# Altium schematic symbol library WS-TASV.SchLib: 75 symbols
Pins are listed as number, name and electrical type; pins without a type are passive.

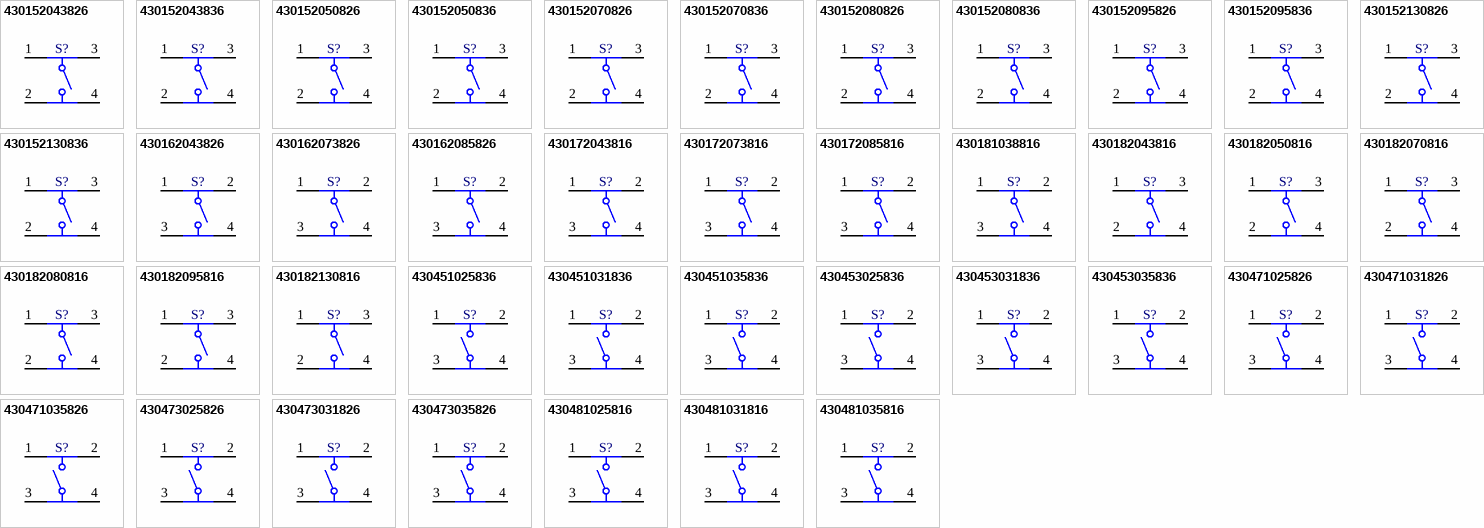
[diagram p0: symbols 430152043826 to 430481035816]

## 430152043826
designator S?
WS-TASV 6x6mm Tact Switch, SMD version; Part Number: 430152043826; Operation Force: 260g; ComponentLink1Description: Manufacturer; ComponentLink1URL: http://www.we-online.de; ComponentLink2Description: Datasheet; ComponentLink2URL: http://katalog.we-online.de/em/datasheet/4301x2xxx8x6.pdf; Published Date: June 2017; Publisher: Wurth Elektronik; Life Cycle: 200000 cycles; Size: 6x6x4.3 mm
footprint 4301x20438x6_6x6x4.3 (6x6mm Tact Switch, SMD version)
pins: 1, 2, 3, 4

## 430152043836
designator S?
WS-TASV 6x6mm Tact Switch, SMD version; Part Number: 430152043836; Operation Force: 360g; ComponentLink1Description: Manufacturer; ComponentLink1URL: http://www.we-online.de; ComponentLink2Description: Datasheet; ComponentLink2URL: http://katalog.we-online.de/em/datasheet/4301x2xxx8x6.pdf; Published Date: June 2017; Publisher: Wurth Elektronik; Life Cycle: 200000 cycles; Size: 6x6x4.3 mm
footprint 4301x20438x6_6x6x4.3 (6x6mm Tact Switch, SMD version)
pins: 1, 2, 3, 4

## 430152050826
designator S?
WS-TASV 6x6mm Tact Switch, SMD version; Part Number: 430152050826; Operation Force: 260g; ComponentLink1Description: Manufacturer; ComponentLink1URL: http://www.we-online.de; ComponentLink2Description: Datasheet; ComponentLink2URL: http://katalog.we-online.de/em/datasheet/4301x2xxx8x6.pdf; Published Date: June 2017; Publisher: Wurth Elektronik; Life Cycle: 200000 cycles; Size: 6x6x5 mm
footprint 4301x20508x6_6x6x5 (6x6mm Tact Switch, SMD version)
pins: 1, 2, 3, 4

## 430152050836
designator S?
WS-TASV 6x6mm Tact Switch, SMD version; Part Number: 430152050836; Operation Force: 360g; ComponentLink1Description: Manufacturer; ComponentLink1URL: http://www.we-online.de; ComponentLink2Description: Datasheet; ComponentLink2URL: http://katalog.we-online.de/em/datasheet/4301x2xxx8x6.pdf; Published Date: June 2017; Publisher: Wurth Elektronik; Life Cycle: 200000 cycles; Size: 6x6x5 mm
footprint 4301x20508x6_6x6x5 (6x6mm Tact Switch, SMD version)
pins: 1, 2, 3, 4

## 430152070826
designator S?
WS-TASV 6x6mm Tact Switch, SMD version; Part Number: 430152070826; Operation Force: 260g; ComponentLink1Description: Manufacturer; ComponentLink1URL: http://www.we-online.de; ComponentLink2Description: Datasheet; ComponentLink2URL: http://katalog.we-online.de/em/datasheet/4301x2xxx8x6.pdf; Published Date: June 2017; Publisher: Wurth Elektronik; Life Cycle: 200000 cycles; Size: 6x6x7 mm
footprint 4301x20708x6_6x6x7 (6x6mm Tact Switch, SMD version)
pins: 1, 2, 3, 4

## 430152070836
designator S?
WS-TASV 6x6mm Tact Switch, SMD version; Part Number: 430152070836; Operation Force: 360g; ComponentLink1Description: Manufacturer; ComponentLink1URL: http://www.we-online.de; ComponentLink2Description: Datasheet; ComponentLink2URL: http://katalog.we-online.de/em/datasheet/4301x2xxx8x6.pdf; Published Date: June 2017; Publisher: Wurth Elektronik; Life Cycle: 200000 cycles; Size: 6x6x7 mm
footprint 4301x20708x6_6x6x7 (6x6mm Tact Switch, SMD version)
pins: 1, 2, 3, 4

## 430152080826
designator S?
WS-TASV 6x6mm Tact Switch, SMD version; Part Number: 430152080826; Operation Force: 260g; ComponentLink1Description: Manufacturer; ComponentLink1URL: http://www.we-online.de; ComponentLink2Description: Datasheet; ComponentLink2URL: http://katalog.we-online.de/em/datasheet/4301x2xxx8x6.pdf; Published Date: June 2017; Publisher: Wurth Elektronik; Life Cycle: 200000 cycles; Size: 6x6x8 mm
footprint 4301x20808x6_6x6x8 (6x6mm Tact Switch, SMD version)
pins: 1, 2, 3, 4

## 430152080836
designator S?
WS-TASV 6x6mm Tact Switch, SMD version; Part Number: 430152080836; Operation Force: 360g; ComponentLink1Description: Manufacturer; ComponentLink1URL: http://www.we-online.de; ComponentLink2Description: Datasheet; ComponentLink2URL: http://katalog.we-online.de/em/datasheet/4301x2xxx8x6.pdf; Published Date: June 2017; Publisher: Wurth Elektronik; Life Cycle: 200000 cycles; Size: 6x6x8 mm
footprint 4301x20808x6_6x6x8 (6x6mm Tact Switch, SMD version)
pins: 1, 2, 3, 4

## 430152095826
designator S?
WS-TASV 6x6mm Tact Switch, SMD version; Part Number: 430152095826; Operation Force: 260g; ComponentLink1Description: Manufacturer; ComponentLink1URL: http://www.we-online.de; ComponentLink2Description: Datasheet; ComponentLink2URL: http://katalog.we-online.de/em/datasheet/4301x2xxx8x6.pdf; Published Date: June 2017; Publisher: Wurth Elektronik; Life Cycle: 200000 cycles; Size: 6x6x9.5 mm
footprint 4301x20958x6_6x6x9.5 (6x6mm Tact Switch, SMD version)
pins: 1, 2, 3, 4

## 430152095836
designator S?
WS-TASV 6x6mm Tact Switch, SMD version; Part Number: 430152095836; Operation Force: 360g; ComponentLink1Description: Manufacturer; ComponentLink1URL: http://www.we-online.de; ComponentLink2Description: Datasheet; ComponentLink2URL: http://katalog.we-online.de/em/datasheet/4301x2xxx8x6.pdf; Published Date: June 2017; Publisher: Wurth Elektronik; Life Cycle: 200000 cycles; Size: 6x6x9.5 mm
footprint 4301x20958x6_6x6x9.5 (6x6mm Tact Switch, SMD version)
pins: 1, 2, 3, 4

## 430152130826
designator S?
WS-TASV 6x6mm Tact Switch, SMD version; Part Number: 430152130826; Operation Force: 260g; ComponentLink1Description: Manufacturer; ComponentLink1URL: http://www.we-online.de; ComponentLink2Description: Datasheet; ComponentLink2URL: http://katalog.we-online.de/em/datasheet/4301x2xxx8x6.pdf; Published Date: June 2017; Publisher: Wurth Elektronik; Life Cycle: 200000 cycles; Size: 6x6x13 mm
footprint 4301x21308x6_6x6x13 (6x6mm Tact Switch, SMD version)
pins: 1, 2, 3, 4

## 430152130836
designator S?
WS-TASV 6x6mm Tact Switch, SMD version; Part Number: 430152130836; Operation Force: 360g; ComponentLink1Description: Manufacturer; ComponentLink1URL: http://www.we-online.de; ComponentLink2Description: Datasheet; ComponentLink2URL: http://katalog.we-online.de/em/datasheet/4301x2xxx8x6.pdf; Published Date: June 2017; Publisher: Wurth Elektronik; Life Cycle: 200000 cycles; Size: 6x6x13 mm
footprint 4301x21308x6_6x6x13 (6x6mm Tact Switch, SMD version)
pins: 1, 2, 3, 4

## 430162043826
designator S?
WS-TASV 12x12mm Tact Switch, SMD version; Part Number: 430162043826; Operation Force: 260g; ComponentLink1Description: Manufacturer; ComponentLink1URL: http://www.we-online.de; ComponentLink2Description: Datasheet; ComponentLink2URL: http://katalog.we-online.de/em/datasheet/4301x20438x6.pdf; Published Date: June 2017; Publisher: Wurth Elektronik; Life Cycle: 300000 cycles; Size: 12x12x4.3 mm
footprint 4301x20438x6_12x12x4.3 (12x12 mm Tact Switch, SMD version)
pins: 1, 2, 3, 4

## 430162073826
designator S?
WS-TASV 12x12mm Tact Switch, SMD version; Part Number: 430162073826; Operation Force: 260g; ComponentLink1Description: Manufacturer; ComponentLink1URL: http://www.we-online.de; ComponentLink2Description: Datasheet; ComponentLink2URL: http://katalog.we-online.de/em/datasheet/4301x20738x6.pdf; Published Date: June 2017; Publisher: Wurth Elektronik; Life Cycle: 300000 cycles; Size: 12x12x7.3 mm
footprint 4301x20738x6_12x12x7.3 (12x12 mm Tact Switch, SMD version)
pins: 1, 2, 3, 4

## 430162085826
designator S?
WS-TASV 12x12mm Tact Switch, SMD version; Part Number: 430162085826; Operation Force: 260g; ComponentLink1Description: Manufacturer; ComponentLink1URL: http://www.we-online.de; ComponentLink2Description: Datasheet; ComponentLink2URL: http://katalog.we-online.de/em/datasheet/4301x20858x6.pdf; Published Date: June 2017; Publisher: Wurth Elektronik; Life Cycle: 300000 cycles; Size: 12x12x8.5 mm
footprint 4301x20858x6_12x12x8.5 (12x12 mm Tact Switch, SMD version)
pins: 1, 2, 3, 4

## 430172043816
designator S?
WS-TASV 12x12mm Tact Switch, SMD version; Part Number: 430172043816; Operation Force: 160g; ComponentLink1Description: Manufacturer; ComponentLink1URL: http://www.we-online.de; ComponentLink2Description: Datasheet; ComponentLink2URL: http://katalog.we-online.de/em/datasheet/4301x20438x6.pdf; Published Date: June 2017; Publisher: Wurth Elektronik; Life Cycle: 500000 cycles; Size: 12x12x4.3 mm
footprint 4301x20438x6_12x12x4.3 (12x12 mm Tact Switch, SMD version)
pins: 1, 2, 3, 4

## 430172073816
designator S?
WS-TASV 12x12mm Tact Switch, SMD version; Part Number: 430172073816; Operation Force: 160g; ComponentLink1Description: Manufacturer; ComponentLink1URL: http://www.we-online.de; ComponentLink2Description: Datasheet; ComponentLink2URL: http://katalog.we-online.de/em/datasheet/4301x20738x6.pdf; Published Date: June 2017; Publisher: Wurth Elektronik; Life Cycle: 500000 cycles; Size: 12x12x7.3 mm
footprint 4301x20738x6_12x12x7.3 (12x12 mm Tact Switch, SMD version)
pins: 1, 2, 3, 4

## 430172085816
designator S?
WS-TASV 12x12mm Tact Switch, SMD version; Part Number: 430172085816; Operation Force: 160g; ComponentLink1Description: Manufacturer; ComponentLink1URL: http://www.we-online.de; ComponentLink2Description: Datasheet; ComponentLink2URL: http://katalog.we-online.de/em/datasheet/4301x20858x6.pdf; Published Date: June 2017; Publisher: Wurth Elektronik; Life Cycle: 500000 cycles; Size: 12x12x8.5 mm
footprint 4301x20858x6_12x12x8.5 (12x12 mm Tact Switch, SMD version)
pins: 1, 2, 3, 4

## 430181038816
designator S?
WS-TASV 4.5x4.5mm Tact Switch, SMD version; Part Number: 430181038816; Operation Force: 160g; ComponentLink1Description: Manufacturer; ComponentLink1URL: http://www.we-online.de; ComponentLink2Description: Datasheet; ComponentLink2URL: http://katalog.we-online.de/em/datasheet/430181038816.pdf; Published Date: June 2017; Publisher: Wurth Elektronik; Life Cycle: 1000000 cycles; Size: 4.5x4.5x3.8 mm
footprint 430181038816_4.5x4.5x3.8 (4.5x4.5mm Tact Switch, SMD version)
pins: 1, 2, 3, 4

## 430182043816
designator S?
WS-TASV 6x6mm Tact Switch, SMD version; Part Number: 430182043816; Operation Force: 160g; ComponentLink1Description: Manufacturer; ComponentLink1URL: http://www.we-online.de; ComponentLink2Description: Datasheet; ComponentLink2URL: http://katalog.we-online.de/em/datasheet/4301x2xxx8x6.pdf; Published Date: June 2017; Publisher: Wurth Elektronik; Life Cycle: 1000000 cycles; Size: 6x6x4.3 mm
footprint 4301x20438x6_6x6x4.3 (6x6mm Tact Switch, SMD version)
pins: 1, 2, 3, 4

## 430182050816
designator S?
WS-TASV 6x6mm Tact Switch, SMD version; Part Number: 430182050816; Operation Force: 160g; ComponentLink1Description: Manufacturer; ComponentLink1URL: http://www.we-online.de; ComponentLink2Description: Datasheet; ComponentLink2URL: http://katalog.we-online.de/em/datasheet/4301x2xxx8x6.pdf; Published Date: June 2017; Publisher: Wurth Elektronik; Life Cycle: 1000000 cycles; Size: 6x6x5 mm
footprint 4301x20508x6_6x6x5 (6x6mm Tact Switch, SMD version)
pins: 1, 2, 3, 4

## 430182070816
designator S?
WS-TASV 6x6mm Tact Switch, SMD version; Part Number: 430182070816; Operation Force: 160g; ComponentLink1Description: Manufacturer; ComponentLink1URL: http://www.we-online.de; ComponentLink2Description: Datasheet; ComponentLink2URL: http://katalog.we-online.de/em/datasheet/4301x2xxx8x6.pdf; Published Date: June 2017; Publisher: Wurth Elektronik; Life Cycle: 1000000 cycles; Size: 6x6x7 mm
footprint 4301x20708x6_6x6x7 (6x6mm Tact Switch, SMD version)
pins: 1, 2, 3, 4

## 430182080816
designator S?
WS-TASV 6x6mm Tact Switch, SMD version; Part Number: 430182080816; Operation Force: 160g; ComponentLink1Description: Manufacturer; ComponentLink1URL: http://www.we-online.de; ComponentLink2Description: Datasheet; ComponentLink2URL: http://katalog.we-online.de/em/datasheet/4301x2xxx8x6.pdf; Published Date: June 2017; Publisher: Wurth Elektronik; Life Cycle: 1000000 cycles; Size: 6x6x8 mm
footprint 4301x20808x6_6x6x8 (6x6mm Tact Switch, SMD version)
pins: 1, 2, 3, 4

## 430182095816
designator S?
WS-TASV 6x6mm Tact Switch, SMD version; Part Number: 430182095816; Operation Force: 160g; ComponentLink1Description: Manufacturer; ComponentLink1URL: http://www.we-online.de; ComponentLink2Description: Datasheet; ComponentLink2URL: http://katalog.we-online.de/em/datasheet/4301x2xxx8x6.pdf; Published Date: June 2017; Publisher: Wurth Elektronik; Life Cycle: 1000000 cycles; Size: 6x6x9.5 mm
footprint 4301x20958x6_6x6x9.5 (6x6mm Tact Switch, SMD version)
pins: 1, 2, 3, 4

## 430182130816
designator S?
WS-TASV 6x6mm Tact Switch, SMD version; Part Number: 430182130816; Operation Force: 160g; ComponentLink1Description: Manufacturer; ComponentLink1URL: http://www.we-online.de; ComponentLink2Description: Datasheet; ComponentLink2URL: http://katalog.we-online.de/em/datasheet/4301x2xxx8x6.pdf; Published Date: June 2017; Publisher: Wurth Elektronik; Life Cycle: 1000000 cycles; Size: 6x6x13 mm
footprint 4301x21308x6_6x6x13 (6x6mm Tact Switch, SMD version)
pins: 1, 2, 3, 4

## 430451025836
designator S?
WS-TASV 6x6mm washable Tact Switch, SMD version; Part Number: 430451025836; Operation Force: 360g; ComponentLink1Description: Manufacturer; ComponentLink1URL: http://www.we-online.de; ComponentLink2Description: Datasheet; ComponentLink2URL: http://katalog.we-online.de/em/datasheet/4304x1xxx8x6.pdf; Published Date: June 2017; Publisher: Wurth Elektronik; Life Cycle: 200000 cycles; Size: 6x6x2.5 mm
footprint 4304x10258x6_6x6x2.5 (6x6mm washable Tact Switch, SMD version)
pins: 1, 2, 3, 4

## 430451031836
designator S?
WS-TASV 6x6mm washable Tact Switch, SMD version; Part Number: 430451031836; Operation Force: 360g; ComponentLink1Description: Manufacturer; ComponentLink1URL: http://www.we-online.de; ComponentLink2Description: Datasheet; ComponentLink2URL: http://katalog.we-online.de/em/datasheet/4304x1xxx8x6.pdf; Published Date: June 2017; Publisher: Wurth Elektronik; Life Cycle: 200000 cycles; Size: 6x6x3.1 mm
footprint 4304x10318x6_6x6x3.1 (6x6mm washable Tact Switch, SMD version)
pins: 1, 2, 3, 4

## 430451035836
designator S?
WS-TASV 6x6mm washable Tact Switch, SMD version; Part Number: 430451035836; Operation Force: 360g; ComponentLink1Description: Manufacturer; ComponentLink1URL: http://www.we-online.de; ComponentLink2Description: Datasheet; ComponentLink2URL: http://katalog.we-online.de/em/datasheet/4304x1xxx8x6.pdf; Published Date: June 2017; Publisher: Wurth Elektronik; Life Cycle: 200000 cycles; Size: 6x6x3.5 mm
footprint 4304x10358x6_6x6x3.5 (6x6mm washable Tact Switch, SMD version)
pins: 1, 2, 3, 4

## 430453025836
designator S?
WS-TASV 6x6mm washable Tact Switch, J-Bend SMD version; Part Number: 430453025836; Operation Force: 360g; ComponentLink1Description: Manufacturer; ComponentLink1URL: http://www.we-online.de; ComponentLink2Description: Datasheet; ComponentLink2URL: http://katalog.we-online.de/em/datasheet/4304x3xxx8x6.pdf; Published Date: June 2017; Publisher: Wurth Elektronik; Life Cycle: 200000 cycles; Size: 6x6x2.5 mm
footprint 4304x30258x6_6x6x2.5 (6x6mm washable Tact Switch, J-Bend SMD version)
pins: 1, 2, 3, 4

## 430453031836
designator S?
WS-TASV 6x6mm washable Tact Switch, J-Bend SMD version; Part Number: 430453031836; Operation Force: 360g; ComponentLink1Description: Manufacturer; ComponentLink1URL: http://www.we-online.de; ComponentLink2Description: Datasheet; ComponentLink2URL: http://katalog.we-online.de/em/datasheet/4304x3xxx8x6.pdf; Published Date: June 2017; Publisher: Wurth Elektronik; Life Cycle: 200000 cycles; Size: 6x6x3.1 mm
footprint 4304x30318x6_6x6x3.1 (6x6mm washable Tact Switch, J-Bend SMD version)
pins: 1, 2, 3, 4

## 430453035836
designator S?
WS-TASV 6x6mm washable Tact Switch, J-Bend SMD version; Part Number: 430453035836; Operation Force: 360g; ComponentLink1Description: Manufacturer; ComponentLink1URL: http://www.we-online.de; ComponentLink2Description: Datasheet; ComponentLink2URL: http://katalog.we-online.de/em/datasheet/4304x3xxx8x6.pdf; Published Date: June 2017; Publisher: Wurth Elektronik; Life Cycle: 200000 cycles; Size: 6x6x3.5 mm
footprint 4304x30358x6_6x6x3.5 (6x6mm washable Tact Switch, J-Bend SMD version)
pins: 1, 2, 3, 4

## 430471025826
designator S?
WS-TASV 6x6mm washable Tact Switch, SMD version; Part Number: 430471025826; Operation Force: 260g; ComponentLink1Description: Manufacturer; ComponentLink1URL: http://www.we-online.de; ComponentLink2Description: Datasheet; ComponentLink2URL: http://katalog.we-online.de/em/datasheet/4304x1xxx8x6.pdf; Published Date: June 2017; Publisher: Wurth Elektronik; Life Cycle: 500000 cycles; Size: 6x6x2.5 mm
footprint 4304x10258x6_6x6x2.5 (6x6mm washable Tact Switch, SMD version)
pins: 1, 2, 3, 4

## 430471031826
designator S?
WS-TASV 6x6mm washable Tact Switch, SMD version; Part Number: 430471031826; Operation Force: 260g; ComponentLink1Description: Manufacturer; ComponentLink1URL: http://www.we-online.de; ComponentLink2Description: Datasheet; ComponentLink2URL: http://katalog.we-online.de/em/datasheet/4304x1xxx8x6.pdf; Published Date: June 2017; Publisher: Wurth Elektronik; Life Cycle: 500000 cycles; Size: 6x6x3.1 mm
footprint 4304x10318x6_6x6x3.1 (6x6mm washable Tact Switch, SMD version)
pins: 1, 2, 3, 4

## 430471035826
designator S?
WS-TASV 6x6mm washable Tact Switch, SMD version; Part Number: 430471035826; Operation Force: 260g; ComponentLink1Description: Manufacturer; ComponentLink1URL: http://www.we-online.de; ComponentLink2Description: Datasheet; ComponentLink2URL: http://katalog.we-online.de/em/datasheet/4304x1xxx8x6.pdf; Published Date: June 2017; Publisher: Wurth Elektronik; Life Cycle: 500000 cycles; Size: 6x6x3.5 mm
footprint 4304x10358x6_6x6x3.5 (6x6mm washable Tact Switch, SMD version)
pins: 1, 2, 3, 4

## 430473025826
designator S?
WS-TASV 6x6mm washable Tact Switch, J-Bend SMD version; Part Number: 430473025826; Operation Force: 260g; ComponentLink1Description: Manufacturer; ComponentLink1URL: http://www.we-online.de; ComponentLink2Description: Datasheet; ComponentLink2URL: http://katalog.we-online.de/em/datasheet/4304x3xxx8x6.pdf; Published Date: June 2017; Publisher: Wurth Elektronik; Life Cycle: 500000 cycles; Size: 6x6x2.5 mm
footprint 4304x30258x6_6x6x2.5 (6x6mm washable Tact Switch, J-Bend SMD version)
pins: 1, 2, 3, 4

## 430473031826
designator S?
WS-TASV 6x6mm washable Tact Switch, J-Bend SMD version; Part Number: 430473031826; Operation Force: 260g; ComponentLink1Description: Manufacturer; ComponentLink1URL: http://www.we-online.de; ComponentLink2Description: Datasheet; ComponentLink2URL: http://katalog.we-online.de/em/datasheet/4304x3xxx8x6.pdf; Published Date: June 2017; Publisher: Wurth Elektronik; Life Cycle: 500000 cycles; Size: 6x6x3.1 mm
footprint 4304x30318x6_6x6x3.1 (6x6mm washable Tact Switch, J-Bend SMD version)
pins: 1, 2, 3, 4

## 430473035826
designator S?
WS-TASV 6x6mm washable Tact Switch, J-Bend SMD version; Part Number: 430473035826; Operation Force: 260g; ComponentLink1Description: Manufacturer; ComponentLink1URL: http://www.we-online.de; ComponentLink2Description: Datasheet; ComponentLink2URL: http://katalog.we-online.de/em/datasheet/4304x3xxx8x6.pdf; Published Date: June 2017; Publisher: Wurth Elektronik; Life Cycle: 500000 cycles; Size: 6x6x3.5 mm
footprint 4304x30358x6_6x6x3.5 (6x6mm washable Tact Switch, J-Bend SMD version)
pins: 1, 2, 3, 4

## 430481025816
designator S?
WS-TASV 6x6mm washable Tact Switch, SMD version; Part Number: 430481025816; Operation Force: 160g; ComponentLink1Description: Manufacturer; ComponentLink1URL: http://www.we-online.de; ComponentLink2Description: Datasheet; ComponentLink2URL: http://katalog.we-online.de/em/datasheet/4304x1xxx8x6.pdf; Published Date: June 2017; Publisher: Wurth Elektronik; Life Cycle: 1000000 cycles; Size: 6x6x2.5 mm
footprint 4304x10258x6_6x6x2.5 (6x6mm washable Tact Switch, SMD version)
pins: 1, 2, 3, 4

## 430481031816
designator S?
WS-TASV 6x6mm washable Tact Switch, SMD version; Part Number: 430481031816; Operation Force: 160g; ComponentLink1Description: Manufacturer; ComponentLink1URL: http://www.we-online.de; ComponentLink2Description: Datasheet; ComponentLink2URL: http://katalog.we-online.de/em/datasheet/4304x1xxx8x6.pdf; Published Date: June 2017; Publisher: Wurth Elektronik; Life Cycle: 1000000 cycles; Size: 6x6x3.1 mm
footprint 4304x10318x6_6x6x3.1 (6x6mm washable Tact Switch, SMD version)
pins: 1, 2, 3, 4

## 430481035816
designator S?
WS-TASV 6x6mm washable Tact Switch, SMD version; Part Number: 430481035816; Operation Force: 160g; ComponentLink1Description: Manufacturer; ComponentLink1URL: http://www.we-online.de; ComponentLink2Description: Datasheet; ComponentLink2URL: http://katalog.we-online.de/em/datasheet/4304x1xxx8x6.pdf; Published Date: June 2017; Publisher: Wurth Elektronik; Life Cycle: 1000000 cycles; Size: 6x6x3.5 mm
footprint 4304x10358x6_6x6x3.5 (6x6mm washable Tact Switch, SMD version)
pins: 1, 2, 3, 4

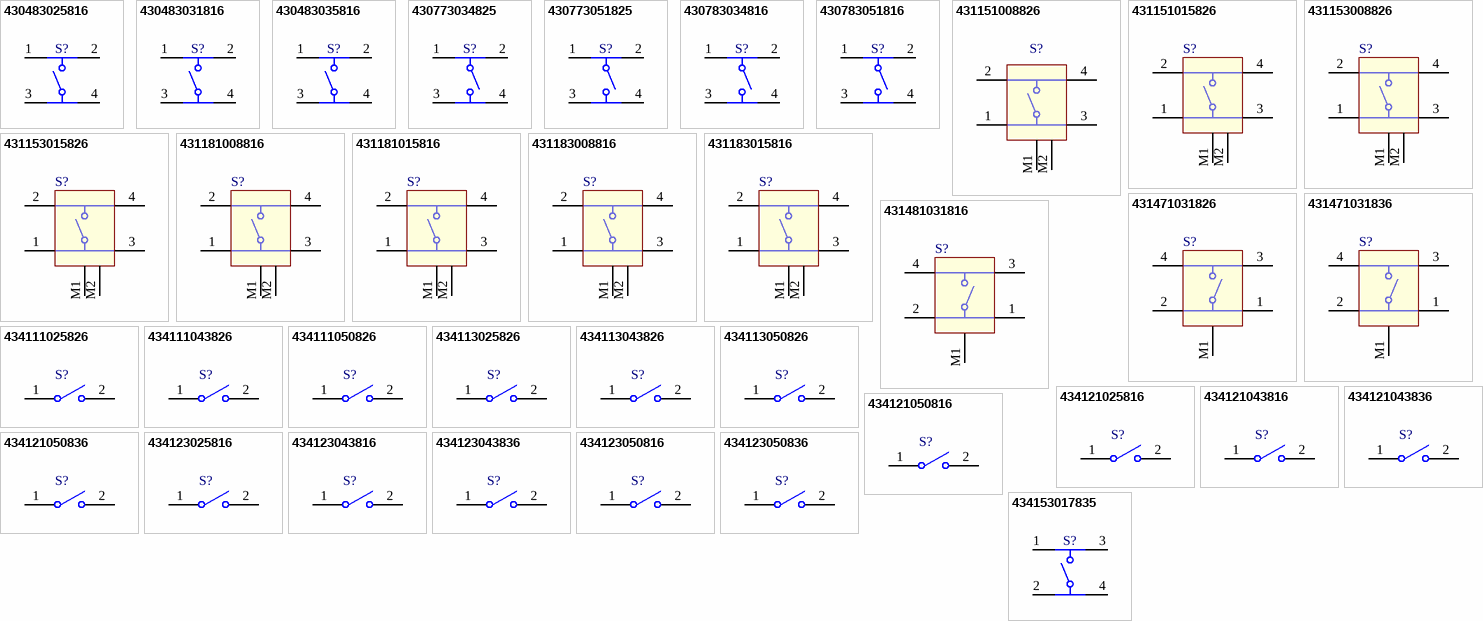
[diagram p1: symbols 430483025816 to 434153017835]

## 430483025816
designator S?
WS-TASV 6x6mm washable Tact Switch, J-Bend SMD version; Part Number: 430483025816; Operation Force: 160g; ComponentLink1Description: Manufacturer; ComponentLink1URL: http://www.we-online.de; ComponentLink2Description: Datasheet; ComponentLink2URL: http://katalog.we-online.de/em/datasheet/4304x3xxx8x6.pdf; Published Date: June 2017; Publisher: Wurth Elektronik; Life Cycle: 1000000 cycles; Size: 6x6x2.5 mm
footprint 4304x30258x6_6x6x2.5 (6x6mm washable Tact Switch, J-Bend SMD version)
pins: 1, 2, 3, 4

## 430483031816
designator S?
WS-TASV 6x6mm washable Tact Switch, J-Bend SMD version; Part Number: 430483031816; Operation Force: 160g; ComponentLink1Description: Manufacturer; ComponentLink1URL: http://www.we-online.de; ComponentLink2Description: Datasheet; ComponentLink2URL: http://katalog.we-online.de/em/datasheet/4304x3xxx8x6.pdf; Published Date: June 2017; Publisher: Wurth Elektronik; Life Cycle: 1000000 cycles; Size: 6x6x3.1 mm
footprint 4304x30318x6_6x6x3.1 (6x6mm washable Tact Switch, J-Bend SMD version)
pins: 1, 2, 3, 4

## 430483035816
designator S?
WS-TASV 6x6mm washable Tact Switch, J-Bend SMD version; Part Number: 430483035816; Operation Force: 160g; ComponentLink1Description: Manufacturer; ComponentLink1URL: http://www.we-online.de; ComponentLink2Description: Datasheet; ComponentLink2URL: http://katalog.we-online.de/em/datasheet/4304x3xxx8x6.pdf; Published Date: June 2017; Publisher: Wurth Elektronik; Life Cycle: 1000000 cycles; Size: 6x6x3.5 mm
footprint 4304x30358x6_6x6x3.5 (6x6mm washable Tact Switch, J-Bend SMD version)
pins: 1, 2, 3, 4

## 430773034825
designator S?
WS-TASV 6x6mm J-Hook Hermetic Tact Switch, SMD version; Part Number: 430773034825; Operation Force: 250g; ComponentLink1Description: Manufacturer; ComponentLink1URL: http://www.we-online.de; ComponentLink2Description: Datasheet; ComponentLink2URL: http://katalog.we-online.de/em/datasheet/430773034825.pdf; Published Date: June 2017; Publisher: Wurth Elektronik; Life Cycle: 500000 cycles; Size: 6x6x3.4 mm
footprint 4307x30348xx_6x6x3.4 (6x6 mm J-Hook SMD Hermetic Tact Switch)
pins: 1, 2, 3, 4

## 430773051825
designator S?
WS-TASV 6x6mm J-Hook Hermetic Tact Switch, SMD version; Part Number: 430773051825; Operation Force: 250g; ComponentLink1Description: Manufacturer; ComponentLink1URL: http://www.we-online.de; ComponentLink2Description: Datasheet; ComponentLink2URL: http://katalog.we-online.de/em/datasheet/430773051825.pdf; Published Date: June 2017; Publisher: Wurth Elektronik; Life Cycle: 500000 cycles; Size: 6x6x5.1 mm
footprint 4307x30518xx_6x6x5.1 (6x6 mm J-Hook SMD Hermetic Tact Switch)
pins: 1, 2, 3, 4

## 430783034816
designator S?
WS-TASV 6x6mm J-Hook Hermetic Tact Switch, SMD version; Part Number: 430783034816; Operation Force: 160g; ComponentLink1Description: Manufacturer; ComponentLink1URL: http://www.we-online.de; ComponentLink2Description: Datasheet; ComponentLink2URL: http://katalog.we-online.de/em/datasheet/430783034816.pdf; Published Date: June 2017; Publisher: Wurth Elektronik; Life Cycle: 1000000 cycles; Size: 6x6x3.4 mm
footprint 4307x30348xx_6x6x3.4 (6x6 mm J-Hook SMD Hermetic Tact Switch)
pins: 1, 2, 3, 4

## 430783051816
designator S?
WS-TASV 6x6mm J-Hook Hermetic Tact Switch, SMD version; Part Number: 430783051816; Operation Force: 160g; ComponentLink1Description: Manufacturer; ComponentLink1URL: http://www.we-online.de; ComponentLink2Description: Datasheet; ComponentLink2URL: http://katalog.we-online.de/em/datasheet/430783051816.pdf; Published Date: June 2017; Publisher: Wurth Elektronik; Life Cycle: 1000000 cycles; Size: 6x6x5.1 mm
footprint 4307x30518xx_6x6x5.1 (6x6 mm J-Hook SMD Hermetic Tact Switch)
pins: 1, 2, 3, 4

## 431151008826
designator S?
WS-TASV 5x5mm Tact Switch with ground terminal, SMD version; Part Number: 431151008826; Operation Force: 260g; ComponentLink1Description: Manufacturer; ComponentLink1URL: http://www.we-online.de; ComponentLink2Description: Datasheet; ComponentLink2URL: http://katalog.we-online.de/em/datasheet/4311x10088x6.pdf; Published Date: June 2017; Publisher: Wurth Elektronik; Life Cycle: 200000 cycles; Size: 5x5x0.8 mm
footprint 4311x10088x6_5x5x0.8 (5x5mm Tact Switch with ground terminal, SMD version)
pins: 1, 2, 3, 4, M1 GND, M2 GND

## 431151015826
designator S?
WS-TASV 5x5mm Tact Switch with ground terminal, SMD version; Part Number: 431151015826; Operation Force: 260g; ComponentLink1Description: Manufacturer; ComponentLink1URL: http://www.we-online.de; ComponentLink2Description: Datasheet; ComponentLink2URL: http://katalog.we-online.de/em/datasheet/4311x10158x6.pdf; Published Date: June 2017; Publisher: Wurth Elektronik; Life Cycle: 200000 cycles; Size: 5x5x1.5 mm
footprint 4311x10158x6_5x5x1.5
pins: 1, 2, 3, 4, M1 GND, M2 GND

## 431153008826
designator S?
WS-TASV 5x5mm Tact Switch with ground terminal, J-Bend SMD version; Part Number: 431153008826; Operation Force: 260g; ComponentLink1Description: Manufacturer; ComponentLink1URL: http://www.we-online.de; ComponentLink2Description: Datasheet; ComponentLink2URL: http://katalog.we-online.de/em/datasheet/4311x30088x6.pdf; Published Date: June 2017; Publisher: Wurth Elektronik; Life Cycle: 200000 cycles; Size: 5x5x0.8 mm
footprint 4311x30088x6_5x5x0.8
pins: 1, 2, 3, 4, M1 GND, M2 GND

## 431153015826
designator S?
WS-TASV 5x5mm Tact Switch with ground terminal, J-Bend SMD version; Part Number: 431153015826; Operation Force: 260g; ComponentLink1Description: Manufacturer; ComponentLink1URL: http://www.we-online.de; ComponentLink2Description: Datasheet; ComponentLink2URL: http://katalog.we-online.de/em/datasheet/4311x30158x6.pdf; Published Date: June 2017; Publisher: Wurth Elektronik; Life Cycle: 200000 cycles; Size: 5x5x1.5 mm
footprint 4311x30158x6_5x5x1.5
pins: 1, 2, 3, 4, M1 GND, M2 GND

## 431181008816
designator S?
WS-TASV 5x5mm Tact Switch with ground terminal, SMD version; Part Number: 431181008816; Operation Force: 160g; ComponentLink1Description: Manufacturer; ComponentLink1URL: http://www.we-online.de; ComponentLink2Description: Datasheet; ComponentLink2URL: http://katalog.we-online.de/em/datasheet/4311x10088x6.pdf; Published Date: June 2017; Publisher: Wurth Elektronik; Life Cycle: 1000000 cycles; Size: 5x5x0.8 mm
footprint 4311x10088x6_5x5x0.8 (5x5mm Tact Switch with ground terminal, SMD version)
pins: 1, 2, 3, 4, M1 GND, M2 GND

## 431181015816
designator S?
WS-TASV 5x5mm Tact Switch with ground terminal, SMD version; Part Number: 431181015816; Operation Force: 160g; ComponentLink1Description: Manufacturer; ComponentLink1URL: http://www.we-online.de; ComponentLink2Description: Datasheet; ComponentLink2URL: http://katalog.we-online.de/em/datasheet/4311x10158x6.pdf; Published Date: June 2017; Publisher: Wurth Elektronik; Life Cycle: 1000000 cycles; Size: 5x5x1.5 mm
footprint 4311x10158x6_5x5x1.5
pins: 1, 2, 3, 4, M1 GND, M2 GND

## 431183008816
designator S?
WS-TASV 5x5mm Tact Switch with ground terminal, J-Bend SMD version; Part Number: 431183008816; Operation Force: 160g; ComponentLink1Description: Manufacturer; ComponentLink1URL: http://www.we-online.de; ComponentLink2Description: Datasheet; ComponentLink2URL: http://katalog.we-online.de/em/datasheet/4311x30088x6.pdf; Published Date: June 2017; Publisher: Wurth Elektronik; Life Cycle: 1000000 cycles; Size: 5x5x0.8 mm
footprint 4311x30088x6_5x5x0.8
pins: 1, 2, 3, 4, M1 GND, M2 GND

## 431183015816
designator S?
WS-TASV 5x5mm Tact Switch with ground terminal, J-Bend SMD version; Part Number: 431183015816; Operation Force: 160g; ComponentLink1Description: Manufacturer; ComponentLink1URL: http://www.we-online.de; ComponentLink2Description: Datasheet; ComponentLink2URL: http://katalog.we-online.de/em/datasheet/4311x30158x6.pdf; Published Date: June 2017; Publisher: Wurth Elektronik; Life Cycle: 1000000 cycles; Size: 5x5x1.5 mm
footprint 4311x30158x6_5x5x1.5
pins: 1, 2, 3, 4, M1 GND, M2 GND

## 431471031826
designator S?
WS-TASV 6x6mm washable Tact Switch with ground terminal, SMD version; Part Number: 431471031826; Operation Force: 260g; ComponentLink1Description: Manufacturer; ComponentLink1URL: http://www.we-online.de; ComponentLink2Description: Datasheet; ComponentLink2URL: http://katalog.we-online.de/em/datasheet/4314x10318x6.pdf; Published Date: June 2017; Publisher: Wurth Elektronik; Life Cycle: 500000 cycles; Size: 6x6x3.1 mm
footprint 4314x10318x6_6x6x3.1
pins: 1, 2, 3, 4, M1 GND

## 431471031836
designator S?
WS-TASV 6x6mm washable Tact Switch with ground terminal, SMD version; Part Number: 431471031836; Operation Force: 360g; ComponentLink1Description: Manufacturer; ComponentLink1URL: http://www.we-online.de; ComponentLink2Description: Datasheet; ComponentLink2URL: http://katalog.we-online.de/em/datasheet/4314x10318x6.pdf; Published Date: June 2017; Publisher: Wurth Elektronik; Life Cycle: 500000 cycles; Size: 6x6x3.1 mm
footprint 4314x10318x6_6x6x3.1
pins: 1, 2, 3, 4, M1 GND

## 431481031816
designator S?
WS-TASV 6x6mm washable Tact Switch with ground terminal, SMD version; Part Number: 431481031816; Operation Force: 160g; ComponentLink1Description: Manufacturer; ComponentLink1URL: http://www.we-online.de; ComponentLink2Description: Datasheet; ComponentLink2URL: http://katalog.we-online.de/em/datasheet/4314x10318x6.pdf; Published Date: June 2017; Publisher: Wurth Elektronik; Life Cycle: 1000000 cycles; Size: 6x6x3.1 mm
footprint 4314x10318x6_6x6x3.1
pins: 1, 2, 3, 4, M1 GND

## 434111025826
designator S?
WS-TASV 6.0x3.8mm Tact Switch, SMD version; Part Number: 434111025826; Operation Force: 260g; ComponentLink1Description: Manufacturer; ComponentLink1URL: http://www.we-online.de; ComponentLink2Description: Datasheet; ComponentLink2URL: http://katalog.we-online.de/em/datasheet/4341x10258xx.pdf; Published Date: June 2017; Publisher: Wurth Elektronik; Life Cycle: 30000 cycles; Size: 6x3.8x2.5 mm
footprint 4341x10258xx_6x3.8x2.5
pins: 1, 2

## 434111043826
designator S?
WS-TASV 6.0x3.5mm Tact Switch, SMD version; Part Number: 434111043826; Operation Force: 260g; ComponentLink1Description: Manufacturer; ComponentLink1URL: http://www.we-online.de; ComponentLink2Description: Datasheet; ComponentLink2URL: http://katalog.we-online.de/em/datasheet/4341x1xxx8x6.pdf; Published Date: June 2017; Publisher: Wurth Elektronik; Life Cycle: 30000 cycles; Size: 6x3.5x4.3 mm
footprint 4341x10438x6_6x3.5x4.3
pins: 1, 2

## 434111050826
designator S?
WS-TASV 6.0x3.5mm Tact Switch, SMD version; Part Number: 434111050826; Operation Force: 260g; ComponentLink1Description: Manufacturer; ComponentLink1URL: http://www.we-online.de; ComponentLink2Description: Datasheet; ComponentLink2URL: http://katalog.we-online.de/em/datasheet/4341x1xxx8x6.pdf; Published Date: June 2017; Publisher: Wurth Elektronik; Life Cycle: 30000 cycles; Size: 6x3.5x5 mm
footprint 4341x10508x6_6x3.5x5
pins: 1, 2

## 434113025826
designator S?
WS-TASV 6.0x3.8mm Tact Switch, J-Bend SMD version; Part Number: 434113025826; Operation Force: 260g; ComponentLink1Description: Manufacturer; ComponentLink1URL: http://www.we-online.de; ComponentLink2Description: Datasheet; ComponentLink2URL: http://katalog.we-online.de/em/datasheet/4341x30258xx.pdf; Published Date: June 2017; Publisher: Wurth Elektronik; Life Cycle: 30000 cycles; Size: 6x3.8x2.5 mm
footprint 4341x30258xx_6x3.8x2.5
pins: 1, 2

## 434113043826
designator S?
WS-TASV 6.0x3.5mm Tact Switch, J-Bend SMD version; Part Number: 434113043826; Operation Force: 260g; ComponentLink1Description: Manufacturer; ComponentLink1URL: http://www.we-online.de; ComponentLink2Description: Datasheet; ComponentLink2URL: http://katalog.we-online.de/em/datasheet/4341x3xxx8x6.pdf; Published Date: June 2017; Publisher: Wurth Elektronik; Life Cycle: 30000 cycles; Size: 6x3.5x4.3 mm
footprint 4341x30438x6_6x3.5x4.3
pins: 1, 2

## 434113050826
designator S?
WS-TASV 6.0x3.5mm Tact Switch, J-Bend SMD version; Part Number: 434113050826; Operation Force: 260g; ComponentLink1Description: Manufacturer; ComponentLink1URL: http://www.we-online.de; ComponentLink2Description: Datasheet; ComponentLink2URL: http://katalog.we-online.de/em/datasheet/4341x3xxx8x6.pdf; Published Date: June 2017; Publisher: Wurth Elektronik; Life Cycle: 30000 cycles; Size: 6x3.5x5 mm
footprint 4341x30508x6_6x3.5x5
pins: 1, 2

## 434121025816
designator S?
WS-TASV 6.0x3.8mm Tact Switch, SMD version; Part Number: 434121025816; Operation Force: 160g; ComponentLink1Description: Manufacturer; ComponentLink1URL: http://www.we-online.de; ComponentLink2Description: Datasheet; ComponentLink2URL: http://katalog.we-online.de/em/datasheet/4341x10258xx.pdf; Published Date: June 2017; Publisher: Wurth Elektronik; Life Cycle: 50000 cycles; Size: 6x3.8x2.5 mm
footprint 4341x10258xx_6x3.8x2.5
pins: 1, 2

## 434121043816
designator S?
WS-TASV 6.0x3.5mm Tact Switch, SMD version; Part Number: 434121043816; Operation Force: 160g; ComponentLink1Description: Manufacturer; ComponentLink1URL: http://www.we-online.de; ComponentLink2Description: Datasheet; ComponentLink2URL: http://katalog.we-online.de/em/datasheet/4341x1xxx8x6.pdf; Published Date: June 2017; Publisher: Wurth Elektronik; Life Cycle: 50000 cycles; Size: 6x3.5x4.3 mm
footprint 4341x10438x6_6x3.5x4.3
pins: 1, 2

## 434121043836
designator S?
WS-TASV 6.0x3.5mm Tact Switch, SMD version; Part Number: 434121043836; Operation Force: 360g; ComponentLink1Description: Manufacturer; ComponentLink1URL: http://www.we-online.de; ComponentLink2Description: Datasheet; ComponentLink2URL: http://katalog.we-online.de/em/datasheet/4341x1xxx8x6.pdf; Published Date: June 2017; Publisher: Wurth Elektronik; Life Cycle: 50000 cycles; Size: 6x3.5x4.3 mm
footprint 4341x10438x6_6x3.5x4.3
pins: 1, 2

## 434121050816
designator S?
WS-TASV 6.0x3.5mm Tact Switch, SMD version; Part Number: 434121050816; Operation Force: 160g; ComponentLink1Description: Manufacturer; ComponentLink1URL: http://www.we-online.de; ComponentLink2Description: Datasheet; ComponentLink2URL: http://katalog.we-online.de/em/datasheet/4341x1xxx8x6.pdf; Published Date: June 2017; Publisher: Wurth Elektronik; Life Cycle: 50000 cycles; Size: 6x3.5x5 mm
footprint 4341x10508x6_6x3.5x5
pins: 1, 2

## 434121050836
designator S?
WS-TASV 6.0x3.5mm Tact Switch, SMD version; Part Number: 434121050836; Operation Force: 360g; ComponentLink1Description: Manufacturer; ComponentLink1URL: http://www.we-online.de; ComponentLink2Description: Datasheet; ComponentLink2URL: http://katalog.we-online.de/em/datasheet/4341x1xxx8x6.pdf; Published Date: June 2017; Publisher: Wurth Elektronik; Life Cycle: 50000 cycles; Size: 6x3.5x5 mm
footprint 4341x10508x6_6x3.5x5
pins: 1, 2

## 434123025816
designator S?
WS-TASV 6.0x3.8mm Tact Switch, J-Bend SMD version; Part Number: 434123025816; Operation Force: 160g; ComponentLink1Description: Manufacturer; ComponentLink1URL: http://www.we-online.de; ComponentLink2Description: Datasheet; ComponentLink2URL: http://katalog.we-online.de/em/datasheet/4341x30258xx.pdf; Published Date: June 2017; Publisher: Wurth Elektronik; Life Cycle: 50000 cycles; Size: 6x3.8x2.5 mm
footprint 4341x30258xx_6x3.8x2.5
pins: 1, 2

## 434123043816
designator S?
WS-TASV 6.0x3.5mm Tact Switch, J-Bend SMD version; Part Number: 434123043816; Operation Force: 160g; ComponentLink1Description: Manufacturer; ComponentLink1URL: http://www.we-online.de; ComponentLink2Description: Datasheet; ComponentLink2URL: http://katalog.we-online.de/em/datasheet/4341x3xxx8x6.pdf; Published Date: June 2017; Publisher: Wurth Elektronik; Life Cycle: 50000 cycles; Size: 6x3.5x4.3 mm
footprint 4341x30438x6_6x3.5x4.3
pins: 1, 2

## 434123043836
designator S?
WS-TASV 6.0x3.5mm Tact Switch, J-Bend SMD version; Part Number: 434123043836; Operation Force: 360g; ComponentLink1Description: Manufacturer; ComponentLink1URL: http://www.we-online.de; ComponentLink2Description: Datasheet; ComponentLink2URL: http://katalog.we-online.de/em/datasheet/4341x3xxx8x6.pdf; Published Date: June 2017; Publisher: Wurth Elektronik; Life Cycle: 50000 cycles; Size: 6x3.5x4.3 mm
footprint 4341x30438x6_6x3.5x4.3
pins: 1, 2

## 434123050816
designator S?
WS-TASV 6.0x3.5mm Tact Switch, J-Bend SMD version; Part Number: 434123050816; Operation Force: 160g; ComponentLink1Description: Manufacturer; ComponentLink1URL: http://www.we-online.de; ComponentLink2Description: Datasheet; ComponentLink2URL: http://katalog.we-online.de/em/datasheet/4341x3xxx8x6.pdf; Published Date: June 2017; Publisher: Wurth Elektronik; Life Cycle: 50000 cycles; Size: 6x3.5x5 mm
footprint 4341x30508x6_6x3.5x5
pins: 1, 2

## 434123050836
designator S?
WS-TASV 6.0x3.5mm Tact Switch, J-Bend SMD version; Part Number: 434123050836; Operation Force: 360g; ComponentLink1Description: Manufacturer; ComponentLink1URL: http://www.we-online.de; ComponentLink2Description: Datasheet; ComponentLink2URL: http://katalog.we-online.de/em/datasheet/4341x3xxx8x6.pdf; Published Date: June 2017; Publisher: Wurth Elektronik; Life Cycle: 50000 cycles; Size: 6x3.5x5 mm
footprint 4341x30508x6_6x3.5x5
pins: 1, 2

## 434153017835
designator S?
WS-TASV 3.5x2.9mm Tact Switch, J-Bend SMD version; Part Number: 434153017835; Operation Force: 350g; ComponentLink1Description: Manufacturer; ComponentLink1URL: http://www.we-online.de; ComponentLink2Description: Datasheet; ComponentLink2URL: http://katalog.we-online.de/em/datasheet/434153017835.pdf; Published Date: June 2017; Publisher: Wurth Elektronik; Life Cycle: 200000 cycles; Size: 3.2x2.9x1.7 mm
footprint 434153017835_3.2x2.9x1.7
pins: 1, 2, 3, 4